# Altium schematic symbol library SSW-108-XX-X-S.SchLib: 1 symbol
Pins are listed as number, name and electrical type; pins without a type are passive.

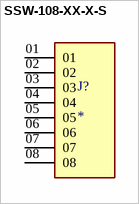
[diagram p0: symbol SSW-108-XX-X-S]

## SSW-108-XX-X-S
designator J?
8 Position Receptacle Connector 0.100 (2.54mm) Through Hole, Right Angle Gold; MF: Samtec; MP: SSW-108-23-G-S; SnapEDA_Link: https://www.snapeda.com/parts/SSW-108-23-G-S/Samtec/view-part/?ref=snap; Package: None; Value: *; Check_prices: https://www.snapeda.com/parts/SSW-108-23-G-S/Samtec/view-part/?ref=eda
footprint SAMTEC_SSW-108-XX-X-S
pins: 01, 02, 03, 04, 05, 06, 07, 08